# Altium footprint library PinHeader.PcbLib: 14 footprints
Each footprint in its own frame and in the unit in brackets; x right, y up, seen from the top. Pads: shape width x height; smd on the part's side, far side on the other; paste and mask are expansions set on the pad; w line width, h text height; cw(c..) or ccw(c..) is an arc to the next point about the centre after c.
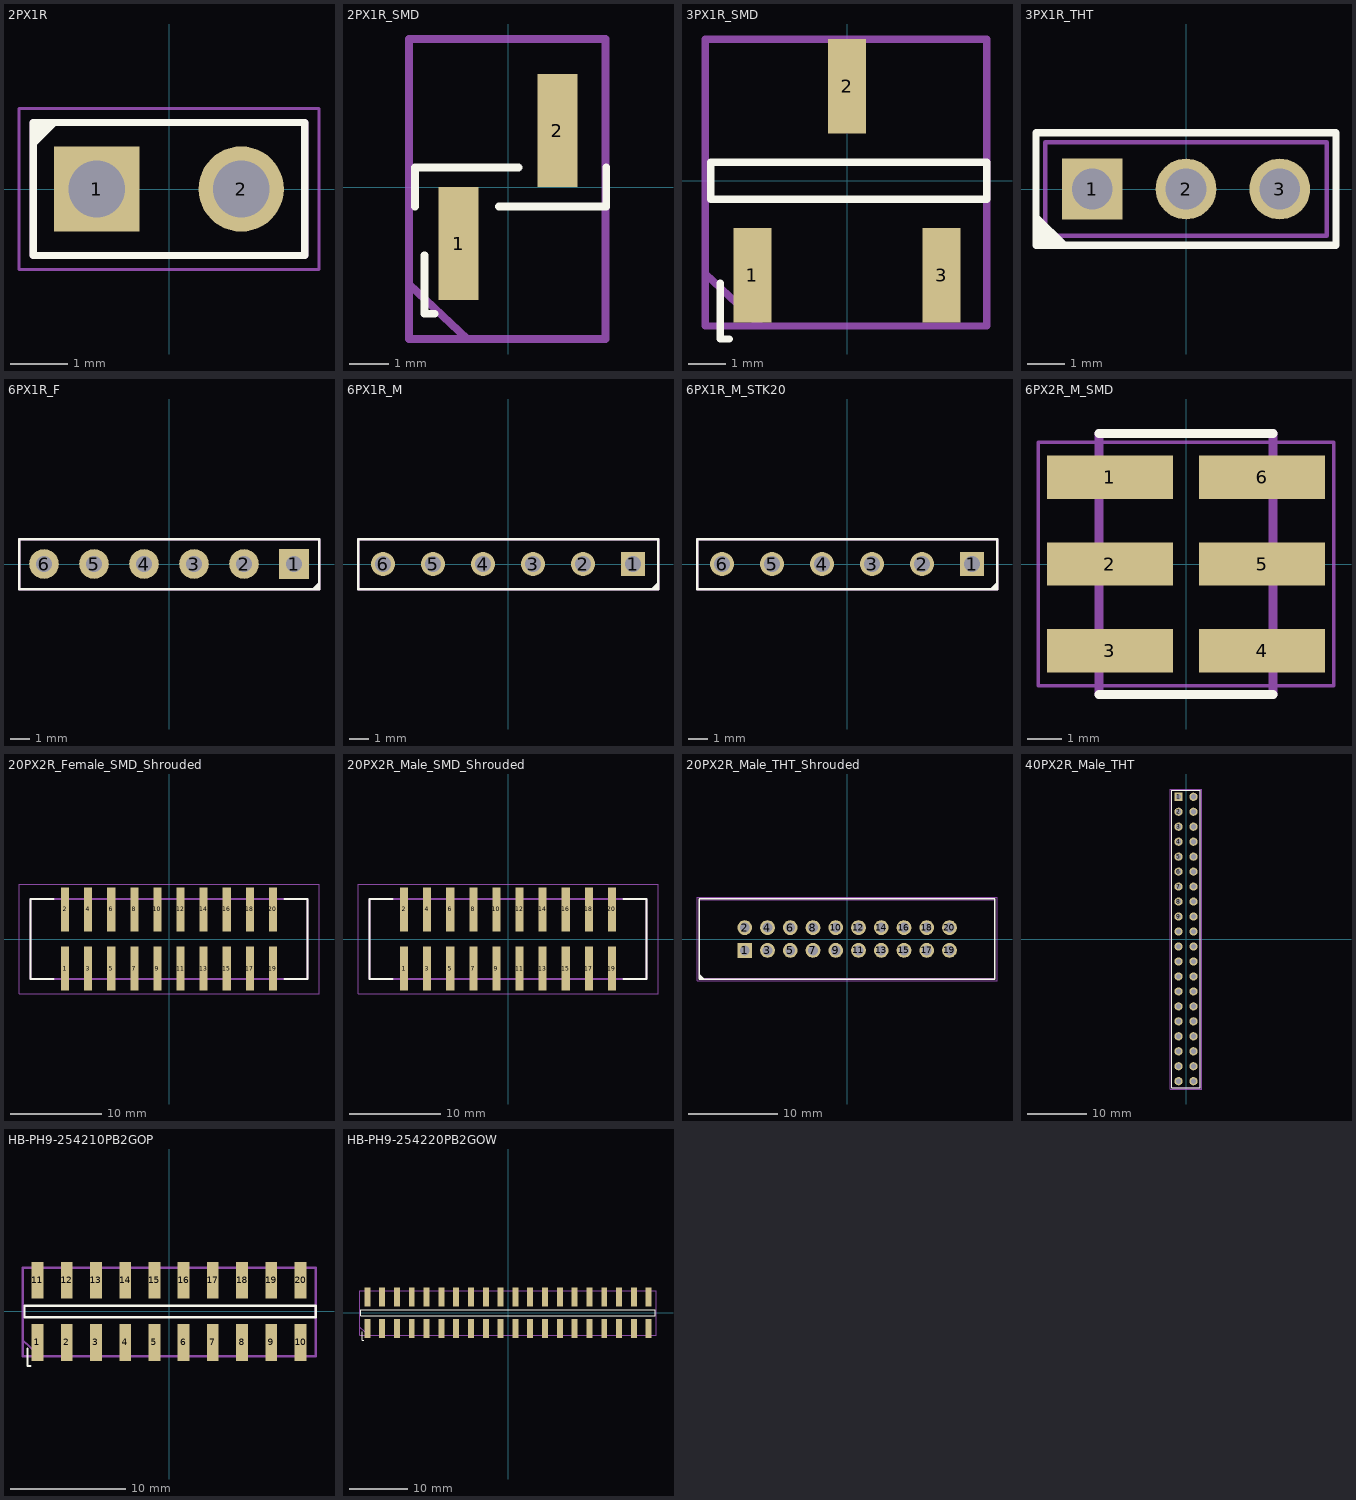
[diagram p0: the footprints below, top view; thin cyan lines are the x and y axes]

## 2PX1R [mm]
pads (2):
  rect 1.5x1.5 hole 1: 1(-1.27,0)
  round 1.5 hole 1: 2(1.27,0)
Top Overlay:
  lines w0.05: -2.391,0.764 -2.365,0.764 -1.995,1.135 -2.057,1.135 -2.347,0.844 -2.369,0.844 -2.097,1.117 -2.097,1.131 -2.315,0.913 -2.373,0.913 -2.144,1.142 -2.144,1.146 -2.307,0.982 -2.376,0.982 -2.362,0.997 -2.322,0.997 -2.22,1.099 -2.253,1.099 -2.347,1.004 -2.347,1.102 -2.34,1.11 -2.195,1.11 -2.187,1.102 -2.271,1.102 -2.34,1.033 -2.34,1.011 -2.315,1.037 -2.315,1.073 -2.322,1.08
  lines w0.127: -2.388,-1.168 2.388,-1.168 2.388,1.168 -2.388,1.168 -2.388,-1.168
Mechanical 13:
  lines w0.127: -2.388,-1.168 2.388,-1.168 ; -2.388,-1.168 2.388,-1.168 ; -2.388,-1.168 -2.388,1.168 2.388,1.168 2.388,-1.168
Mechanical 15:
  lines w0.05: -2.638,-1.418 2.638,-1.418 2.638,1.418 -2.638,1.418 -2.638,-1.418
3D body "61300211121_Download_STP_61300211121_rev1.stp": height 8.77, standoff -2.77, extent -2.54,-1.27 2.54,1.27

## 2PX1R_SMD [mm] "SMD PIN HEADER 1x2P"
height 9.2
pads (2):
  rect 1.02x2.9 smd mask+0.05: 1(-1.27,-1.45) 2(1.27,1.45)
Top Overlay:
  lines w0.2: -2.39,-0.5 -2.39,0.5 0.27,0.5 ; -2.14,-1.75 -2.14,-3.25 -1.89,-3.25 ; -0.23,-0.5 2.52,-0.5 2.52,0.5
Mechanical 13:
  lines w0.2: -2.54,-2.5 -1.04,-3.9 ; -2.54,-3.9 -2.54,3.8 2.5,3.8 2.5,-3.9 -2.54,-3.9
Mechanical 15:
  lines w0.2: -2.54,-3.9 -2.54,3.8 2.5,3.8 2.5,-3.9 -2.54,-3.9
3D body "GBC02SFBN-M30.STEP": height 12.4, standoff 0, extent -2.58,-3.81 2.5,3.81

## 3PX1R_SMD [mm] "SMD PIN HEADER 1x3P"
height 9.2
pads (3):
  rect 1.02x2.54 smd mask+0.05: 1(-2.54,-2.54) 2(0,2.54) 3(2.54,-2.54)
Top Overlay:
  lines w0.2: -3.41,-2.75 -3.41,-4.25 -3.16,-4.25 ; -3.66,-0.5 -3.66,0.5 3.75,0.5 3.75,-0.5 -3.66,-0.5
Mechanical 13:
  lines w0.2: -3.81,-2.5 -2.31,-3.9 ; -3.81,-3.9 -3.81,3.8 3.75,3.8 3.75,-3.9 -3.81,-3.9
Mechanical 15:
  lines w0.2: -3.81,-3.9 -3.81,3.8 3.75,3.8 3.75,-3.9 -3.81,-3.9
3D body "tsm-103-01-l-sv-p-tr.stp": height 10.95, standoff 0.03, extent -3.81,-2.5 3.81,2.783

## 3PX1R_THT [mm]
pads (3):
  rect 1.65x1.65 / inner round 1.65 / far side rect 1.65x1.65 hole 1.1: 1(-2.54,0)
  round 1.65 hole 1.1: 2(0,0) 3(2.54,0)
Top Overlay:
  lines w0.2: -4.064,-1.27 -3.81,-1.524 ; -4.064,-1.016 -3.556,-1.524 ; -4.064,-0.762 -3.302,-1.524 ; -4.064,-1.524 4.064,-1.524 4.064,1.524 -4.064,1.524 -4.064,-1.524
Mechanical 13:
  lines w0.127: -3.81,-1.27 3.81,-1.27 3.81,1.27 -3.81,1.27 -3.81,-1.27
Mechanical 15:
  lines w0.05: -3.81,-1.27 3.81,-1.27 3.81,1.27 -3.81,1.27 -3.81,-1.27
3D body "step_temp.STEP": height 8.38, standoff -3.05, extent -3.81,-1.205 3.81,1.205

## 6PX1R_F [mm]
pads (6):
  rect 1.5x1.5 hole 0.81: 1(6.35,0)
  round 1.5 hole 0.81: 2(3.81,0) 3(1.27,0) 4(-1.27,0) 5(-3.81,0) 6(-6.35,0)
Top Overlay:
  lines w0.05: 7.269,-1.233 7.33,-1.233 7.59,-0.972 7.59,-1.007 7.372,-1.226 7.413,-1.226 7.574,-1.065 7.574,-1.094 7.433,-1.236 7.471,-1.236 7.581,-1.126 7.581,-1.171 7.51,-1.242
  lines w0.127: -7.62,-1.27 7.62,-1.27 7.62,1.27 -7.62,1.27 -7.62,-1.27
Mechanical 13:
  lines w0.127: -7.62,-1.27 7.62,-1.27 ; -7.62,-1.27 7.62,-1.27 ; -7.62,-1.27 -7.62,1.27 7.62,1.27 7.62,-1.27
Mechanical 15:
  lines w0.05: -7.62,-1.25 7.62,-1.25 7.62,1.27 -7.62,1.27 -7.62,-1.25
3D body "step_temp.STEP": height 8.51, standoff -3.43, extent -7.62,-1.27 7.62,1.27

## 6PX1R_M [mm]
pads (6):
  rect 1.22x1.22 / inner round 1.22 / far side rect 1.22x1.22 hole 0.81: 1(6.35,0)
  round 1.22 hole 0.81: 2(3.81,0) 3(1.27,0) 4(-1.27,0) 5(-3.81,0) 6(-6.35,0)
Top Overlay:
  lines w0.05: 7.269,-1.233 7.33,-1.233 7.59,-0.972 7.59,-1.007 7.372,-1.226 7.413,-1.226 7.574,-1.065 7.574,-1.094 7.433,-1.236 7.471,-1.236 7.581,-1.126 7.581,-1.171 7.51,-1.242
  lines w0.127: -7.62,-1.27 7.62,-1.27 7.62,1.27 -7.62,1.27 -7.62,-1.27
Mechanical 13:
  lines w0.127: -7.62,-1.27 7.62,-1.27 ; -7.62,-1.27 7.62,-1.27 ; -7.62,-1.27 -7.62,1.27 7.62,1.27 7.62,-1.27
Mechanical 15:
  lines w0.05: -7.62,-1.25 7.62,-1.25 7.62,1.27 -7.62,1.27 -7.62,-1.25
3D body "Download_STP_61300611121+(rev1).stp": height 8.57, standoff -2.97, extent -7.62,-1.27 7.62,1.27

## 6PX1R_M_STK20 [mm]
pads (6):
  rect 1.22x1.22 / inner round 1.22 / far side rect 1.22x1.22 hole 0.81: 1(6.35,0)
  round 1.22 hole 0.81: 2(3.81,0) 3(1.27,0) 4(-1.27,0) 5(-3.81,0) 6(-6.35,0)
Top Overlay:
  lines w0.05: 7.269,-1.233 7.33,-1.233 7.59,-0.972 7.59,-1.007 7.372,-1.226 7.413,-1.226 7.574,-1.065 7.574,-1.094 7.433,-1.236 7.471,-1.236 7.581,-1.126 7.581,-1.171 7.51,-1.242
  lines w0.127: -7.62,-1.27 7.62,-1.27 7.62,1.27 -7.62,1.27 -7.62,-1.27
Mechanical 13:
  lines w0.127: -7.62,-1.27 7.62,-1.27 ; -7.62,-1.27 7.62,-1.27 ; -7.62,-1.27 -7.62,1.27 7.62,1.27 7.62,-1.27
Mechanical 15:
  lines w0.05: -7.62,-1.25 7.62,-1.25 7.62,1.27 -7.62,1.27 -7.62,-1.25
3D body "77311-426-06LF.step": height 18.11, standoff -2.84, extent -7.62,-1.2 7.62,1.2

## 6PX2R_M_SMD [mm]
pads (6):
  rect 3.68x1.27 smd: 1(-2.22,2.54) 2(-2.22,0) 3(-2.22,-2.54) 4(2.22,-2.54) 5(2.22,0) 6(2.22,2.54)
Top Overlay:
  lines w0.25: -2.54,-3.81 2.54,-3.81 ; -2.54,3.81 2.54,3.81
Mechanical 13:
  lines w0.25: -2.54,-3.81 -2.54,3.81 2.54,3.81 2.54,-3.81 -2.54,-3.81
Mechanical 15:
  lines w0.1: -4.318,-3.556 -4.318,3.556 4.318,3.556 4.318,-3.556 -4.318,-3.556
3D body "0015910060.stp": height 9.64, standoff -0.01, extent -3.492,-3.81 3.492,3.81

## 20PX2R_Female_SMD_Shrouded [mm]
pads (20):
  rect 0.89x4.8 smd: 1(-11.43,-3.25) 2(-11.43,3.25) 3(-8.89,-3.25) 4(-8.89,3.25) 5(-6.35,-3.25) 6(-6.35,3.25) 7(-3.81,-3.25) 8(-3.81,3.25) 9(-1.27,-3.25) 10(-1.27,3.25) 11(1.27,-3.25) 12(1.27,3.25) 13(3.81,-3.25) 14(3.81,3.25) 15(6.35,-3.25) 16(6.35,3.25) 17(8.89,-3.25) 18(8.89,3.25) 19(11.43,-3.25) 20(11.43,3.25)
Top Overlay:
  lines w0.2: -12.7,-4.4 -15.24,-4.4 -15.24,4.4 -12.7,4.4 ; 12.7,-4.4 15.24,-4.4 15.24,4.4 12.7,4.4
Mechanical 13:
  lines w0.2: -15.24,-4.4 15.24,-4.4 15.24,4.4 -15.24,4.4 -15.24,-4.4
Mechanical 15:
  lines w0.1: -16.5,-6 16.5,-6 16.5,6 -16.5,6 -16.5,-6
3D body "NPTC102KFMS-RC.STEP": height 7.49, standoff 0, extent -12.954,-3.429 12.954,3.429

## 20PX2R_Male_SMD_Shrouded [mm]
pads (20):
  rect 0.89x4.8 smd: 1(-11.43,-3.25) 2(-11.43,3.25) 3(-8.89,-3.25) 4(-8.89,3.25) 5(-6.35,-3.25) 6(-6.35,3.25) 7(-3.81,-3.25) 8(-3.81,3.25) 9(-1.27,-3.25) 10(-1.27,3.25) 11(1.27,-3.25) 12(1.27,3.25) 13(3.81,-3.25) 14(3.81,3.25) 15(6.35,-3.25) 16(6.35,3.25) 17(8.89,-3.25) 18(8.89,3.25) 19(11.43,-3.25) 20(11.43,3.25)
Top Overlay:
  lines w0.2: -12.7,-4.4 -15.24,-4.4 -15.24,4.4 -12.7,4.4 ; 12.7,-4.4 15.24,-4.4 15.24,4.4 12.7,4.4
Mechanical 13:
  lines w0.2: -15.24,-4.4 15.24,-4.4 15.24,4.4 -15.24,4.4 -15.24,-4.4
Mechanical 15:
  lines w0.1: -16.5,-6 16.5,-6 16.5,6 -16.5,6 -16.5,-6
3D body "3020-20-0300-00 3D.STEP": height 10.4, standoff 0.06, extent -16.5,-4.75 16.52,4.75

## 20PX2R_Male_THT_Shrouded [mm]
pads (20):
  rect 1.65x1.65 hole 1.1: 1(-11.43,-1.27)
  round 1.65 hole 1.1: 2(-11.43,1.27) 3(-8.89,-1.27) 4(-8.89,1.27) 5(-6.35,-1.27) 6(-6.35,1.27) 7(-3.81,-1.27) 8(-3.81,1.27) 9(-1.27,-1.27) 10(-1.27,1.27) 11(1.27,-1.27) 12(1.27,1.27) 13(3.81,-1.27) 14(3.81,1.27) 15(6.35,-1.27) 16(6.35,1.27) 17(8.89,-1.27) 18(8.89,1.27) 19(11.43,-1.27) 20(11.43,1.27)
Top Overlay:
  lines w0.2: -16.5,-4 -16,-4.5 -16.5,-4.25 -16.5,-4.5 ; -16.25,-4.375 -16.5,-4.5 ; -16.5,-4.5 16.5,-4.5 16.5,4.5 -16.5,4.5 -16.5,-4.5
Mechanical 13:
  lines w0.1: -16.51,-4.4 16.49,-4.4 16.49,4.4 -16.51,4.4 -16.51,-4.4
Mechanical 15:
  lines w0.05: -16.76,-4.65 16.74,-4.65 16.74,4.65 -16.76,4.65 -16.76,-4.65
3D body "BHR-20-VUA.stp": height 9.1, standoff -3.3, extent -16.5,-4.4 16.5,4.4

## 40PX2R_Male_THT [mm]
pads (40):
  rect 1.398x1.398 hole 0.89: 1(-1.27,24.13)
  round 1.398 hole 0.89: 2(-1.27,21.59) 3(-1.27,19.05) 4(-1.27,16.51) 5(-1.27,13.97) 6(-1.27,11.43) 7(-1.27,8.89) 8(-1.27,6.35) 9(-1.27,3.81) 10(-1.27,1.27) 11(-1.27,-1.27) 12(-1.27,-3.81) 13(-1.27,-6.35) 14(-1.27,-8.89) 15(-1.27,-11.43) 16(-1.27,-13.97) 17(-1.27,-16.51) 18(-1.27,-19.05) 19(-1.27,-21.59) 20(-1.27,-24.13) 21(1.27,24.13) 22(1.27,21.59) 23(1.27,19.05) 24(1.27,16.51) 25(1.27,13.97) 26(1.27,11.43) 27(1.27,8.89) 28(1.27,6.35) 29(1.27,3.81) 30(1.27,1.27) 31(1.27,-1.27) 32(1.27,-3.81) 33(1.27,-6.35) 34(1.27,-8.89) 35(1.27,-11.43) 36(1.27,-13.97) 37(1.27,-16.51) 38(1.27,-19.05) 39(1.27,-21.59) 40(1.27,-24.13)
Top Overlay:
  lines w0.127: -2.44,-25.2 2.44,-25.2 2.44,25.2 -2.44,25.2 -2.44,-25.2
Mechanical 13:
  lines w0.127: -2.44,-25.2 2.44,-25.2 2.44,25.2 -2.44,25.2 -2.44,-25.2
Mechanical 15:
  lines w0.05: -2.69,-25.45 2.69,-25.45 2.69,25.45 -2.69,25.45 -2.69,-25.45
3D body "7-146256-0.STEP": height 8.14, standoff -3.03, extent -2.438,-25.197 2.438,25.197

## HB-PH9-254210PB2GOP [mm] "SMD PIN HEADER 2x10P"
height 9.2
pads (20):
  rect 1.02x3.2 smd mask+0.05: 1(-11.43,-2.7) 2(-8.89,-2.7) 3(-6.35,-2.7) 4(-3.81,-2.7) 5(-1.27,-2.7) 6(1.27,-2.7) 7(3.81,-2.7) 8(6.35,-2.7) 9(8.89,-2.7) 10(11.43,-2.7) 11(-11.43,2.7) 12(-8.89,2.7) 13(-6.35,2.7) 14(-3.81,2.7) 15(-1.27,2.7) 16(1.27,2.7) 17(3.81,2.7) 18(6.35,2.7) 19(8.89,2.7) 20(11.43,2.7)
Top Overlay:
  lines w0.2: -12.3,-3.25 -12.3,-4.75 -12.05,-4.75 ; -12.55,-0.5 12.75,-0.5 12.75,0.5 -12.55,0.5 -12.55,-0.5
Mechanical 13:
  lines w0.2: -12.7,-2.5 -11.2,-3.9 ; -12.7,-3.9 12.75,-3.9 12.75,3.8 -12.7,3.8 -12.7,-3.9
Mechanical 15:
  lines w0.2: -12.7,-3.9 12.75,-3.9 12.75,3.8 -12.7,3.8 -12.7,-3.9
3D body "TSM-110-01-L-DV-P-TR.stp": height 10.88, standoff -0.04, extent -12.7,-3.848 12.7,3.848

## HB-PH9-254220PB2GOW [mm] "SMD PIN HEADER 2x20P"
height 9.2
pads (40):
  rect 1.02x3.2 smd mask+0.05: 1(-24.13,-2.7) 2(-21.59,-2.7) 3(-19.05,-2.7) 4(-16.51,-2.7) 5(-13.97,-2.7) 6(-11.43,-2.7) 7(-8.89,-2.7) 8(-6.35,-2.7) 9(-3.81,-2.7) 10(-1.27,-2.7) 11(1.27,-2.7) 12(3.81,-2.7) 13(6.35,-2.7) 14(8.89,-2.7) 15(11.43,-2.7) 16(13.97,-2.7) 17(16.51,-2.7) 18(19.05,-2.7) 19(21.59,-2.7) 20(24.13,-2.7) 21(-24.13,2.7) 22(-21.59,2.7) 23(-19.05,2.7) 24(-16.51,2.7) 25(-13.97,2.7) 26(-11.43,2.7) 27(-8.89,2.7) 28(-6.35,2.7) 29(-3.81,2.7) 30(-1.27,2.7) 31(1.27,2.7) 32(3.81,2.7) 33(6.35,2.7) 34(8.89,2.7) 35(11.43,2.7) 36(13.97,2.7) 37(16.51,2.7) 38(19.05,2.7) 39(21.59,2.7) 40(24.13,2.7)
Top Overlay:
  lines w0.2: -25,-3.25 -25,-4.75 -24.75,-4.75 ; -25.25,-0.5 -25.25,0.5 25.25,0.5 25.25,-0.5 -25.25,-0.5
Mechanical 13:
  lines w0.2: -25.4,-2.5 -23.9,-3.9 ; -25.4,-3.9 -25.4,3.8 25.4,3.8 25.4,-3.9 -25.4,-3.9
Mechanical 15:
  lines w0.2: -25.4,-3.9 -25.4,3.8 25.4,3.8 25.4,-3.9 -25.4,-3.9
3D body "TSM-120-01-L-DV-P-TR.stp": height 10.88, standoff -0.04, extent -25.4,-3.848 25.4,3.848